# Altium schematic symbol library DS1014-10.SchLib: 1 symbol
Pins are listed as number, name and electrical type; pins without a type are passive.

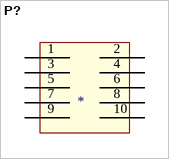
[diagram p0: symbol P?]

## P?
designator *
footprint P?
pins: 1, 2, 3, 4, 5, 6, 7, 8, 9, 10